# EAGLE library part ORG1510-MK04 (library ORG1510-MK04)
Module: GPS GLONASS/BEIDOU; ±2.5m; UART; -165dBm; -40÷85°C; SMD
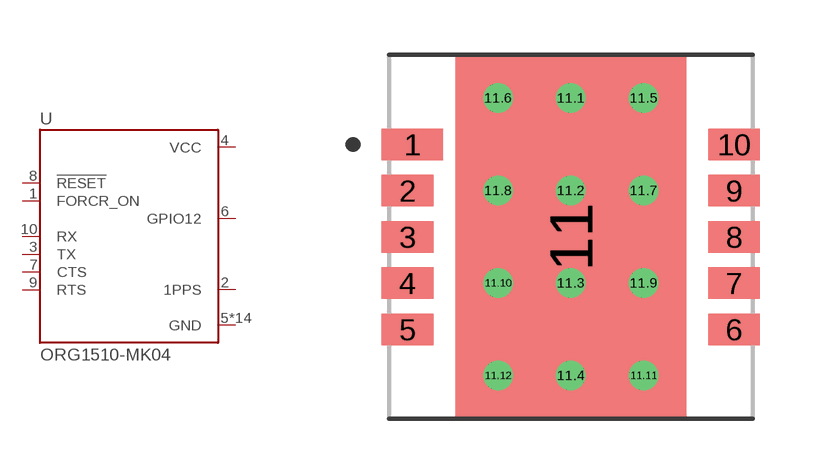
[diagram p0: symbol with the pads of ORIGINGPS_ORG1510-MK04; footprint ORIGINGPS_ORG1510-MK04]

Designator prefix U

## ORG1510-MK04 (Availability: Unavailable; Description: Module: GPS GLONASS/BEIDOU; ±2.5m; UART; -165dBm; -40÷85°C; SMD; MF: OriginGPS; MP: ORG1510-MK04; Package: None; Price: None)  [ORIGINGPS_ORG1510-MK04]
1  FORCR_ON  in
2  1PPS  out
3  TX  out
4  VCC  pwr
5  GND  pwr
6  GPIO12
7  CTS  in
8  !RESET  in
9  RTS  out
10  RX  in
11  GND  pwr
11.1  GND  pwr
11.2  GND  pwr
11.3  GND  pwr
11.4  GND  pwr
11.5  GND  pwr
11.6  GND  pwr
11.7  GND  pwr
11.8  GND  pwr
11.9  GND  pwr
11.10  GND  pwr
11.11  GND  pwr
11.12  GND  pwr

## Footprint ORIGINGPS_ORG1510-MK04 (pad centres in mm)
smd 1.676 x 0.864: 1 -4.358,2.54
smd 1.422 x 0.864: 2 -4.485,1.27; 3 -4.485,0; 4 -4.485,-1.27; 5 -4.485,-2.54; 6 4.485,-2.54; 7 4.485,-1.27; 8 4.485,0; 9 4.485,1.27; 10 4.485,2.54
smd 6.35 x 10.008: 11 0,0
drill 0.305: 11.1 0,3.81; 11.2 0,1.27; 11.3 0,-1.27; 11.4 0,-3.81; 11.5 2,3.81; 11.6 -2,3.81; 11.7 2,1.27; 11.8 -2,1.27; 11.9 2,-1.27; 11.10 -2,-1.27; 11.11 2,-3.81; 11.12 -2,-3.81